# Altium schematic symbol library SCH - POWER - LINEAR VREG - TI TLV70130_DBV_5.SchLib: 1 symbol
Pins are listed as number, name and electrical type; pins without a type are passive.

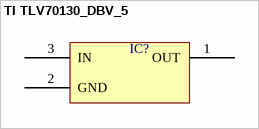
[diagram p0: symbol TI TLV70130_DBV_5]

## TI TLV70130_DBV_5
designator IC?  (value not drawn)
pins: 1 OUT, 2 GND, 3 IN